# Altium schematic symbol library ADM7155ACPZ-04-R7.SchLib: 1 symbol
Pins are listed as number, name and electrical type; pins without a type are passive.

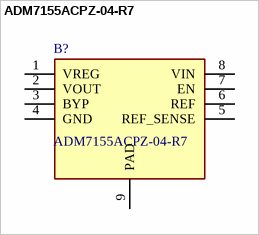
[diagram p0: symbol ADM7155ACPZ-04-R7]

## ADM7155ACPZ-04-R7
designator B?
LDO Voltage Regulators 600mA Ultra-Low-Nois High-PSRR LDO ADJ; Manufacturer_Name: Analog Devices; Geometry.Height: 0.8mm; Mouser Part Number: 584-ADM7155ACPZ-04R7; Mouser Price/Stock: https://www.mouser.co.uk/ProductDetail/Analog-Devices/ADM7155ACPZ-04-R7?qs=iCT64eccu7j%2Fv45ioAdAhA%3D%3D; Manufacturer_Part_Number: ADM7155ACPZ-04-R7; Datasheet Link: https://componentsearchengine.com/Datasheets/1/ADM7155ACPZ-04-R7.pdf
footprint SON50P300X300X80-9N-D
pins: 1 VREG, 2 VOUT, 3 BYP, 4 GND, 5 REF_SENSE, 6 REF, 7 EN, 8 VIN, 9 PAD